# EAGLE library part AD9833BRMZ (library AD9833BRMZ)
Low Power 12.65 mW, 2.3 V to 5.5 V,Low Power 12.65 mW, 2.3 V to 5.5 V,Low Power 12.65 mW, 2.3 V to 5.5 V,Programmable Waveform Generator
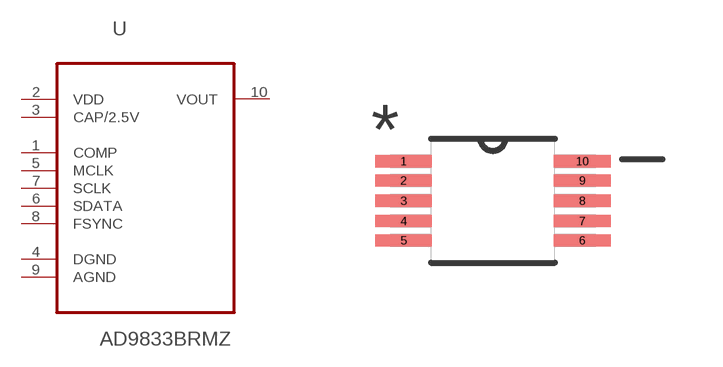
[diagram p0: symbol with the pads of SOP50P490X110-10N; footprint SOP50P490X110-10N]

Designator prefix U

## AD9833BRMZ (MPN: AD9833BRMZ; OC_FARNELL: 1581966; OC_NEWARK: 19M1014; PACKAGE: MSOP-10; SUPPLIER: Analog Devices)  [SOP50P490X110-10N]
1  COMP  pas
2  VDD  pwr
3  CAP/2.5V  pas
4  DGND  pas
5  MCLK  in
6  SDATA  in
7  SCLK  in
8  FSYNC  in
9  AGND  pas
10  VOUT  out

## Footprint SOP50P490X110-10N (pad centres in mm)
smd 1.422 x 0.305: 1 -2.235,0.991; 2 -2.235,0.508; 3 -2.235,0; 4 -2.235,-0.508; 5 -2.235,-0.991; 6 2.235,-0.991; 7 2.235,-0.508; 8 2.235,0; 9 2.235,0.508; 10 2.235,0.991